# Altium footprint library TB6612FNG.PcbLib: 1 footprints
Each footprint in its own frame and in the unit in brackets; x right, y up, seen from the top. Pads: shape width x height; smd on the part's side, far side on the other; paste and mask are expansions set on the pad; w line width, h text height; cw(c..) or ccw(c..) is an arc to the next point about the centre after c.
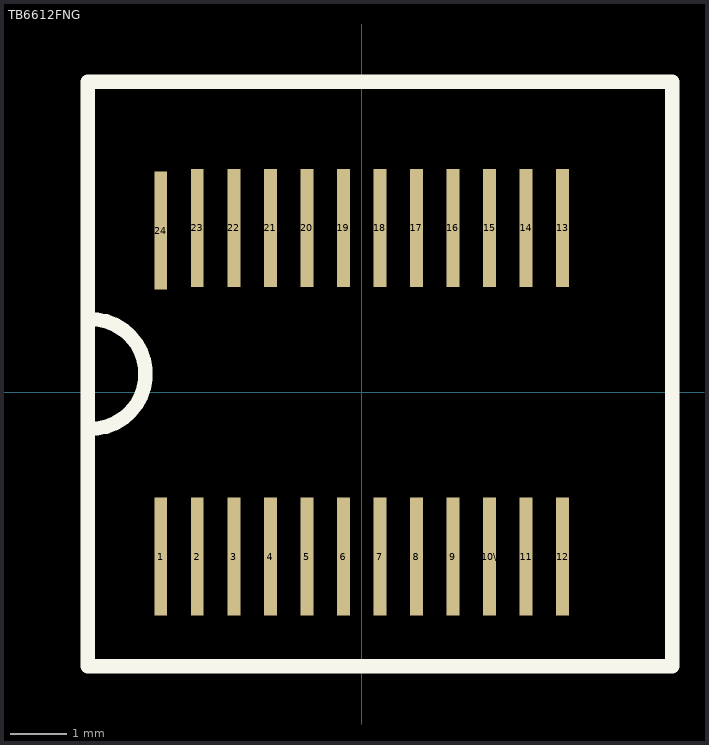
[diagram p0: the footprint, top view; thin cyan lines are the x and y axes]

## TB6612FNG [mm]
pads (24):
  rect 0.23x2.1 smd: 1(-3.575,-2.925) 2(-2.925,-2.925) 3(-2.275,-2.925) 4(-1.625,-2.925) 5(-0.975,-2.925) 6(-0.325,-2.925) 7(0.325,-2.925) 8(0.975,-2.925) 9(1.625,-2.925) 10\(2.275,-2.925) 11(2.925,-2.925) 12(3.575,-2.925) 13(3.575,2.925) 14(2.925,2.925) 15(2.275,2.925) 16(1.625,2.925) 17(0.975,2.925) 18(0.325,2.925) 19(-0.325,2.925) 20(-0.975,2.925) 21(-1.625,2.925) 22(-2.275,2.925) 23(-2.925,2.925) 24(-3.575,2.875)
Top Overlay:
  lines w0.254: -4.875,-0.65 ccw(c-4.821,0.325) -4.875,1.3 ; -4.875,-4.875 5.525,-4.875 5.525,5.525 -4.875,5.525 -4.875,-4.875